# Altium schematic symbol library capacitor_nonpolar.SchLib: 1 symbol
Pins are listed as number, name and electrical type; pins without a type are passive.

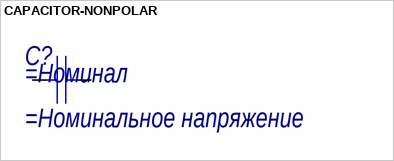
[diagram p0: symbol CAPACITOR-NONPOLAR]

## CAPACITOR-NONPOLAR
designator C?
=Описание; Напряжение: =Номинальное напряжение
pins: 1, 2